# EAGLE library part MX150L-12PINS (library HyTechDevices)
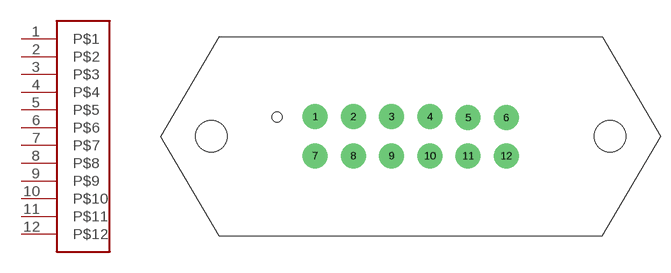
[diagram p66: symbol with the pads of MX150L_VERTICAL-12; footprint MX150L_VERTICAL-12]

Designator prefix -

## MX150L-12PINS  [MX150L_VERTICAL-12]
1  P$1
2  P$2
3  P$3
4  P$4
5  P$5
6  P$6
7  P$7
8  P$8
9  P$9
10  P$10
11  P$11
12  P$12

## Footprint MX150L_VERTICAL-12 (pad centres in mm)
drill 1.778 pad 3.81: 1 -14.605,2.997; 2 -8.763,2.997; 3 -2.921,2.997; 4 2.921,2.997; 5 8.763,2.845; 6 14.605,2.845; 7 -14.605,-2.997; 8 -8.763,-2.997; 9 -2.921,-2.997; 10 2.921,-2.997; 11 8.763,-2.997; 12 14.605,-2.997
hole 1.524 at -20.447,2.921
hole 4.775 at 30.48,0
hole 4.775 at -30.48,0